# Altium footprint library SB48.PcbLib: 2 footprints
Each footprint in its own frame and in the unit in brackets; x right, y up, seen from the top. Pads: shape width x height; smd on the part's side, far side on the other; paste and mask are expansions set on the pad; w line width, h text height; cw(c..) or ccw(c..) is an arc to the next point about the centre after c.
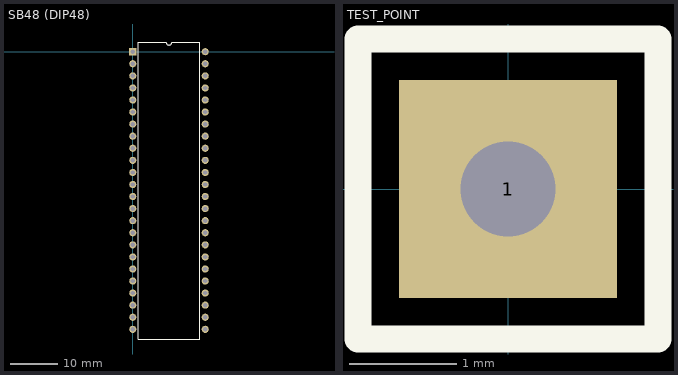
[diagram p0: the footprints below, top view; thin cyan lines are the x and y axes]

## SB48 (DIP48) [mm] "DIP; 48 Leads; Row Spacing 15.24 mm; Pitch 2.54 mm"
pads (48):
  rect 1.5x1.5 hole 0.9: 1(0,0)
  round 1.5 hole 0.9: 2(0,-2.54) 3(0,-5.08) 4(0,-7.62) 5(0,-10.16) 6(0,-12.7) 7(0,-15.24) 8(0,-17.78) 9(0,-20.32) 10(0,-22.86) 11(0,-25.4) 12(0,-27.94) 13(0,-30.48) 14(0,-33.02) 15(0,-35.56) 16(0,-38.1) 17(0,-40.64) 18(0,-43.18) 19(0,-45.72) 20(0,-48.26) 21(0,-50.8) 22(0,-53.34) 23(0,-55.88) 24(0,-58.42) 25(15.24,-58.42) 26(15.24,-55.88) 27(15.24,-53.34) 28(15.24,-50.8) 29(15.24,-48.26) 30(15.24,-45.72) 31(15.24,-43.18) 32(15.24,-40.64) 33(15.24,-38.1) 34(15.24,-35.56) 35(15.24,-33.02) 36(15.24,-30.48) 37(15.24,-27.94) 38(15.24,-25.4) 39(15.24,-22.86) 40(15.24,-20.32) 41(15.24,-17.78) 42(15.24,-15.24) 43(15.24,-12.7) 44(15.24,-10.16) 45(15.24,-7.62) 46(15.24,-5.08) 47(15.24,-2.54) 48(15.24,0)
Top Overlay:
  lines w0.2: 1.17,-60.46 14.07,-60.46 14.07,2.04 8.255,2.04 cw(c7.62,2.04) 6.985,2.04 1.17,2.04 1.17,-60.46

## TEST_POINT [mil]
pads (1):
  rect 80x80 hole 35: 1(0,0)
Top Overlay:
  lines w10: -55,-55 -55,55 55,55 55,-55 -55,-55